# Altium footprint library murata-sensor.PCBLIB: 2 footprints
Each footprint in its own frame and in the unit in brackets; x right, y up, seen from the top. Pads: shape width x height; smd on the part's side, far side on the other; paste and mask are expansions set on the pad; w line width, h text height; cw(c..) or ccw(c..) is an arc to the next point about the centre after c.
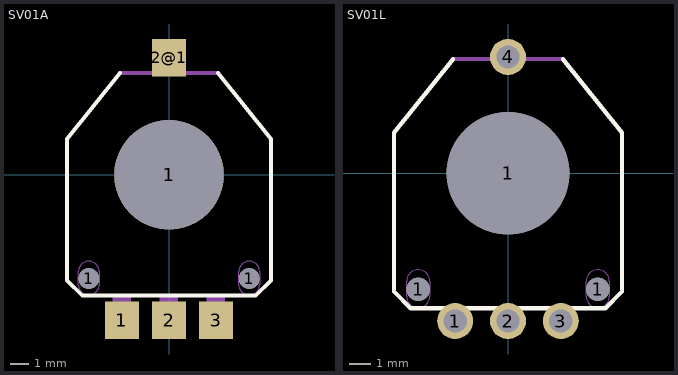
[diagram p0: the footprints below, top view; thin cyan lines are the x and y axes]

## SV01A [mm]
pads (7):
  round 1.1 hole 1.1: 1(-4.25,-5.5) 1(4.25,-5.5)
  rect 1.8x2 smd: 1(-2.5,-7.7) 2(0,-7.7) 2@1(0,6.2) 3(2.5,-7.7)
  round 5.8 hole 5.8: 1(0,0)
Top Overlay:
  lines w0.203: -2.6,5.4 -5.4,1.9 -5.4,-5.6 -4.6,-6.4 4.6,-6.4 5.4,-5.6 5.4,1.9 2.6,5.4
Mechanical 1:
  lines w0: -4.8,-5.825 ccw(c-4.25,-5.825) -3.7,-5.825 -3.7,-5.125 ccw(c-4.25,-5.125) -4.8,-5.125 -4.8,-5.825 ; 3.7,-5.825 ccw(c4.25,-5.825) 4.8,-5.825 4.8,-5.125 ccw(c4.25,-5.125) 3.7,-5.125 3.7,-5.825
Mechanical 16:
  rectangle: -0.5,-8.35 0.475,-6.425
  rectangle: -3,-8.35 -2.025,-6.425
  rectangle: 2,-8.35 2.975,-6.425
  region: 0.5,6.925 -0.475,6.925 -0.475,5.35 0.5,5.35
  lines w0.203: -2.6,5.4 2.6,5.4 ; -1.725,1 ccw(c0,0) 1.725,1 -1.725,1

## SV01L [mm]
pads (7):
  round 1.1 hole 1.1: 1(-4.25,-5.5) 1(4.25,-5.5)
  round 1.7 hole 1.1: 1(-2.5,-7) 2(0,-7) 3(2.5,-7) 4(0,5.5)
  round 5.8 hole 5.8: 1(0,0)
Top Overlay:
  lines w0.203: -2.6,5.4 -5.4,1.9 -5.4,-5.6 -4.6,-6.4 4.6,-6.4 5.4,-5.6 5.4,1.9 2.6,5.4
Mechanical 1:
  lines w0: -4.8,-5.825 ccw(c-4.25,-5.825) -3.7,-5.825 -3.7,-5.125 ccw(c-4.25,-5.125) -4.8,-5.125 -4.8,-5.825 ; 3.7,-5.825 ccw(c4.25,-5.825) 4.8,-5.825 4.8,-5.125 ccw(c4.25,-5.125) 3.7,-5.125 3.7,-5.825
Mechanical 16:
  rectangle: -0.5,-7.15 0.475,-6.425
  rectangle: -3,-7.15 -2.025,-6.425
  rectangle: 2,-7.15 2.975,-6.425
  region: 0.5,5.825 -0.475,5.825 -0.475,5.3 0.5,5.3
  lines w0.203: -2.6,5.4 2.6,5.4 ; -1.725,1 ccw(c0,0) 1.725,1 -1.725,1